# Altium integrated library WE_WR-PHD_Pin Header & Jumper_1.27mm_rev15a.IntLib: 19 symbols
Pins are listed as number, name and electrical type; pins without a type are passive.

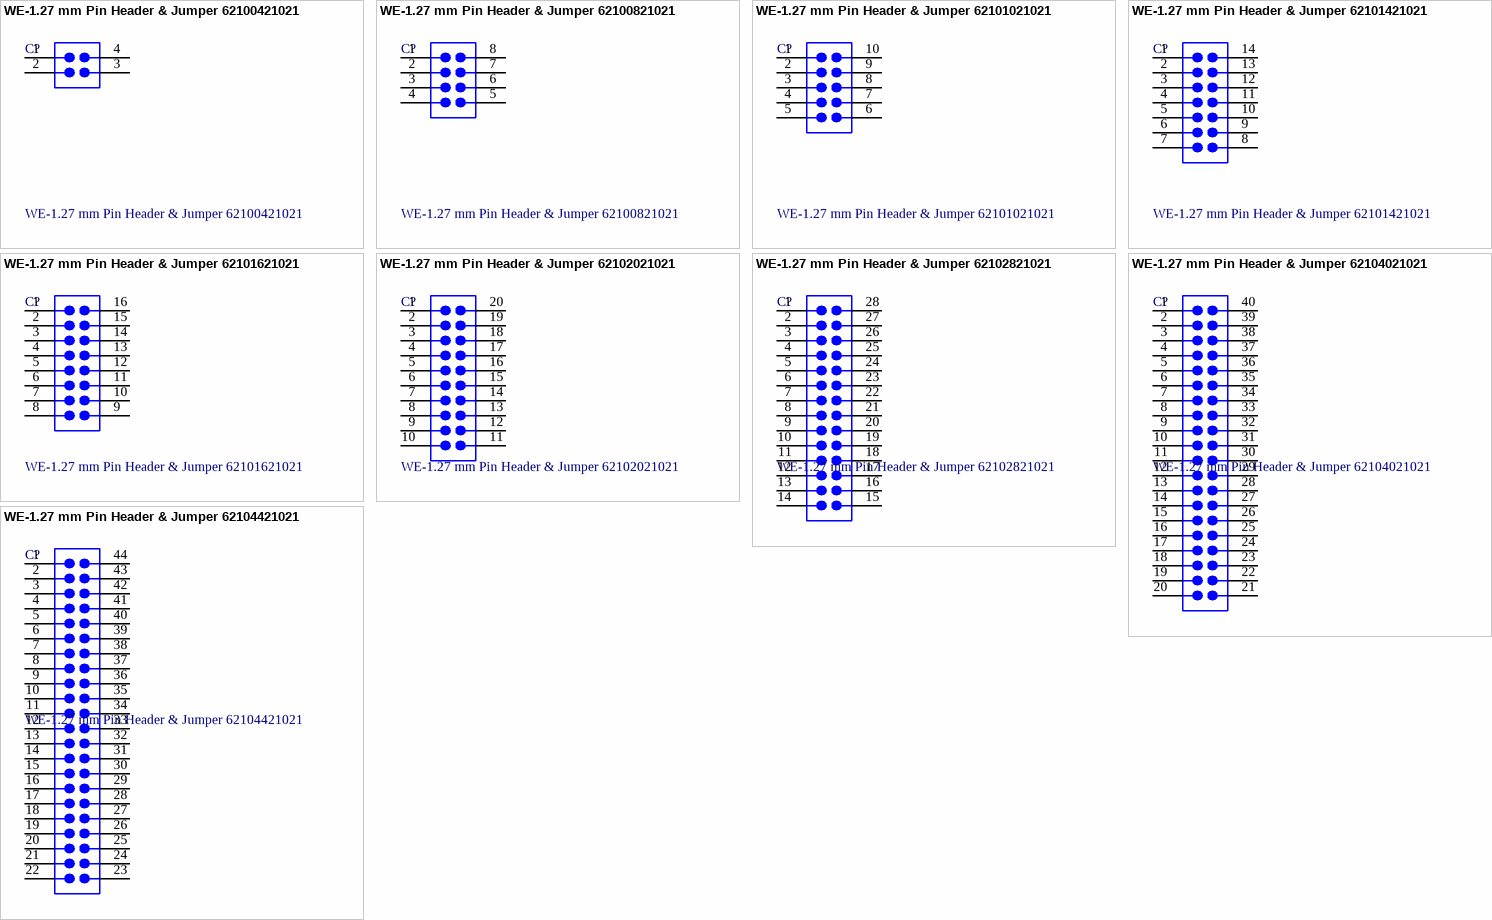
[diagram p0: symbols WE-1.27 mm Pin Header & Jumper 62100421021 to WE-1.27 mm Pin Header & Jumper 62104421021]

## WE-1.27 mm Pin Header & Jumper 62100421021
designator C?
WR-PHD 1.27 mm Dual SMT Pin Header; Manufacturer: Würth Elektronik eiSos GmbH; ComponentLink1 Description: Manufacturer; ComponentLink2 Description: Datasheet; NoPins: 04; Created Date: 3 April 2013; partNo: 62100421021; ComponentLink1URL: http://www.we-online.com; ComponentLink2URL: http://katalog.we-online.de/em/datasheet/6210xx21021.pdf; Created by: Karrer Zheng
footprint 62100421021 (4 pins, dual row, straight, gold plating)
pins: 1, 2, 3, 4

## WE-1.27 mm Pin Header & Jumper 62100821021
designator C?
WR-PHD 1.27 mm Dual SMT Pin Header; Manufacturer: Würth Elektronik eiSos GmbH; ComponentLink1 Description: Manufacturer; ComponentLink2 Description: Datasheet; NoPins: 08; Created Date: 3 April 2013; partNo: 62100821021; ComponentLink1URL: http://www.we-online.com; ComponentLink2URL: http://katalog.we-online.de/em/datasheet/6210xx21021.pdf; Created by: Karrer Zheng
footprint 62100821021 (8 pins, dual row, straight, gold plating)
pins: 1, 2, 3, 4, 5, 6, 7, 8

## WE-1.27 mm Pin Header & Jumper 62101021021
designator C?
WR-PHD 1.27 mm Dual SMT Pin Header; Manufacturer: Würth Elektronik eiSos GmbH; ComponentLink1 Description: Manufacturer; ComponentLink2 Description: Datasheet; NoPins: 10; Created Date: 3 April 2013; partNo: 62101021021; ComponentLink1URL: http://www.we-online.com; ComponentLink2URL: http://katalog.we-online.de/em/datasheet/6210xx21021.pdf; Created by: Karrer Zheng
footprint 62101021021 (10 pins, dual row, straight, gold plating)
pins: 1, 2, 3, 4, 5, 6, 7, 8, 9, 10

## WE-1.27 mm Pin Header & Jumper 62101421021
designator C?
WR-PHD 1.27 mm Dual SMT Pin Header; Manufacturer: Würth Elektronik eiSos GmbH; ComponentLink1 Description: Manufacturer; ComponentLink2 Description: Datasheet; NoPins: 14; Created Date: 3 April 2013; partNo: 62101421021; ComponentLink1URL: http://www.we-online.com; ComponentLink2URL: http://katalog.we-online.de/em/datasheet/6210xx21021.pdf; Created by: Karrer Zheng
footprint 62101421021 (14 pins, dual row, straight, gold plating)
pins: 1, 2, 3, 4, 5, 6, 7, 8, 9, 10, 11, 12, 13, 14

## WE-1.27 mm Pin Header & Jumper 62101621021
designator C?
WR-PHD 1.27 mm Dual SMT Pin Header; Manufacturer: Würth Elektronik eiSos GmbH; ComponentLink1 Description: Manufacturer; ComponentLink2 Description: Datasheet; NoPins: 16; Created Date: 3 April 2013; partNo: 62101621021; ComponentLink1URL: http://www.we-online.com; ComponentLink2URL: http://katalog.we-online.de/em/datasheet/6210xx21021.pdf; Created by: Karrer Zheng
footprint 62101621021 (16 pins, dual row, straight, gold plating)
pins: 1, 2, 3, 4, 5, 6, 7, 8, 9, 10, 11, 12, 13, 14, 15, 16

## WE-1.27 mm Pin Header & Jumper 62102021021
designator C?
WR-PHD 1.27 mm Dual SMT Pin Header; Manufacturer: Würth Elektronik eiSos GmbH; ComponentLink1 Description: Manufacturer; ComponentLink2 Description: Datasheet; NoPins: 20; Created Date: 3 April 2013; partNo: 62102021021; ComponentLink1URL: http://www.we-online.com; ComponentLink2URL: http://katalog.we-online.de/em/datasheet/6210xx21021.pdf; Created by: Karrer Zheng
footprint 62102021021 (20 pins, dual row, straight, gold plating)
pins: 1, 2, 3, 4, 5, 6, 7, 8, 9, 10, 11, 12, 13, 14, 15, 16, 17, 18, 19, 20

## WE-1.27 mm Pin Header & Jumper 62102821021
designator C?
WR-PHD 1.27 mm Dual SMT Pin Header; Manufacturer: Würth Elektronik eiSos GmbH; ComponentLink1 Description: Manufacturer; ComponentLink2 Description: Datasheet; NoPins: 28; Created Date: 3 April 2013; partNo: 62102821021; ComponentLink1URL: http://www.we-online.com; ComponentLink2URL: http://katalog.we-online.de/em/datasheet/6210xx21021.pdf; Created by: Karrer Zheng
footprint 62102821021 (28 pins, dual row, straight, gold plating)
pins: 1, 2, 3, 4, 5, 6, 7, 8, 9, 10, 11, 12, 13, 14, 15, 16, 17, 18, 19, 20, 21, 22, 23, 24, 25, 26, 27, 28

## WE-1.27 mm Pin Header & Jumper 62104021021
designator C?
WR-PHD 1.27 mm Dual SMT Pin Header; Manufacturer: Würth Elektronik eiSos GmbH; ComponentLink1 Description: Manufacturer; ComponentLink2 Description: Datasheet; NoPins: 40; Created Date: 3 April 2013; partNo: 62104021021; ComponentLink1URL: http://www.we-online.com; ComponentLink2URL: http://katalog.we-online.de/em/datasheet/6210xx21021.pdf; Created by: Karrer Zheng
footprint 62104021021 (40 pins, dual row, straight, gold plating)
pins: 1, 2, 3, 4, 5, 6, 7, 8, 9, 10, 11, 12, 13, 14, 15, 16, 17, 18, 19, 20, 21, 22, 23, 24, 25, 26, 27, 28, 29, 30, 31, 32, 33, 34, 35, 36, 37, 38, 39, 40

## WE-1.27 mm Pin Header & Jumper 62104421021
designator C?
WR-PHD 1.27 mm Dual SMT Pin Header; Manufacturer: Würth Elektronik eiSos GmbH; ComponentLink1 Description: Manufacturer; ComponentLink2 Description: Datasheet; NoPins: 44; Created Date: 3 April 2013; partNo: 62104421021; ComponentLink1URL: http://www.we-online.com; ComponentLink2URL: http://katalog.we-online.de/em/datasheet/6210xx21021.pdf; Created by: Karrer Zheng
footprint 62104421021 (44 pins, dual row, straight, gold plating)
pins: 1, 2, 3, 4, 5, 6, 7, 8, 9, 10, 11, 12, 13, 14, 15, 16, 17, 18, 19, 20, 21, 22, 23, 24, 25, 26, 27, 28, 29, 30, 31, 32, 33, 34, 35, 36, 37, 38, 39, 40, 41, 42, 43, 44


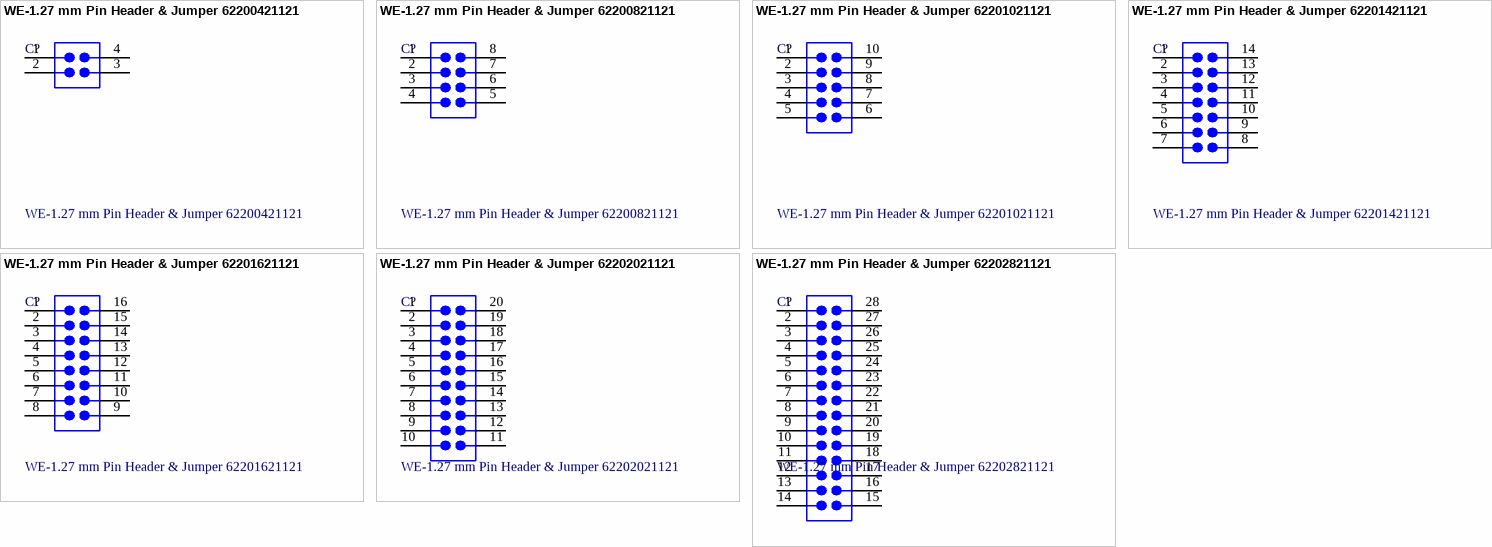
[diagram p1: symbols WE-1.27 mm Pin Header & Jumper 62200421121 to WE-1.27 mm Pin Header & Jumper 62202821121]

## WE-1.27 mm Pin Header & Jumper 62200421121
designator C?
WR-PHD 1.27 mm Dual Pin Header; Manufacturer: Würth Elektronik eiSos GmbH; ComponentLink1 Description: Manufacturer; ComponentLink2 Description: Datasheet; NoPins: 04; Created Date: 3 April 2013; partNo: 62200421121; ComponentLink1URL: http://www.we-online.com; ComponentLink2URL: http://katalog.we-online.de/em/datasheet/6220xx21121.pdf; Created by: Karrer Zheng
footprint 62200421121 (4 pins, dual row, straight, gold plating)
pins: 1, 2, 3, 4

## WE-1.27 mm Pin Header & Jumper 62200821121
designator C?
WR-PHD 1.27 mm Dual Pin Header; Manufacturer: Würth Elektronik eiSos GmbH; ComponentLink1 Description: Manufacturer; ComponentLink2 Description: Datasheet; NoPins: 08; Created Date: 3 April 2013; partNo: 62200821121; ComponentLink1URL: http://www.we-online.com; ComponentLink2URL: http://katalog.we-online.de/em/datasheet/6220xx21121.pdf; Created by: Karrer Zheng
footprint 62200821121 (8 pins, dual row, straight, gold plating)
pins: 1, 2, 3, 4, 5, 6, 7, 8

## WE-1.27 mm Pin Header & Jumper 62201021121
designator C?
WR-PHD 1.27 mm Dual Pin Header; Manufacturer: Würth Elektronik eiSos GmbH; ComponentLink1 Description: Manufacturer; ComponentLink2 Description: Datasheet; NoPins: 10; Created Date: 3 April 2013; partNo: 62201021121; ComponentLink1URL: http://www.we-online.com; ComponentLink2URL: http://katalog.we-online.de/em/datasheet/6220xx21121.pdf; Created by: Karrer Zheng
footprint 62201021121 (10 pins, dual row, straight, gold plating)
pins: 1, 2, 3, 4, 5, 6, 7, 8, 9, 10

## WE-1.27 mm Pin Header & Jumper 62201421121
designator C?
WR-PHD 1.27 mm Dual Pin Header; Manufacturer: Würth Elektronik eiSos GmbH; ComponentLink1 Description: Manufacturer; ComponentLink2 Description: Datasheet; NoPins: 10; Created Date: 3 April 2013; partNo: 62201421121; ComponentLink1URL: http://www.we-online.com; ComponentLink2URL: http://katalog.we-online.de/em/datasheet/6220xx21121.pdf; Created by: Karrer Zheng
footprint 62201421121 (14 pins, dual row, straight, gold plating)
pins: 1, 2, 3, 4, 5, 6, 7, 8, 9, 10, 11, 12, 13, 14

## WE-1.27 mm Pin Header & Jumper 62201621121
designator C?
WR-PHD 1.27 mm Dual Pin Header; Manufacturer: Würth Elektronik eiSos GmbH; ComponentLink1 Description: Manufacturer; ComponentLink2 Description: Datasheet; NoPins: 16; Created Date: 3 April 2013; partNo: 62201621121; ComponentLink1URL: http://www.we-online.com; ComponentLink2URL: http://katalog.we-online.de/em/datasheet/6220xx21121.pdf; Created by: Karrer Zheng
footprint 62201621121 (16 pins, dual row, straight, gold plating)
pins: 1, 2, 3, 4, 5, 6, 7, 8, 9, 10, 11, 12, 13, 14, 15, 16

## WE-1.27 mm Pin Header & Jumper 62202021121
designator C?
WR-PHD 1.27 mm Dual Pin Header; Manufacturer: Würth Elektronik eiSos GmbH; ComponentLink1 Description: Manufacturer; ComponentLink2 Description: Datasheet; NoPins: 20; Created Date: 3 April 2013; partNo: 62202021121; ComponentLink1URL: http://www.we-online.com; ComponentLink2URL: http://katalog.we-online.de/em/datasheet/6220xx21121.pdf; Created by: Karrer Zheng
footprint 62202021121 (20 pins, dual row, straight, gold plating)
pins: 1, 2, 3, 4, 5, 6, 7, 8, 9, 10, 11, 12, 13, 14, 15, 16, 17, 18, 19, 20

## WE-1.27 mm Pin Header & Jumper 62202821121
designator C?
WR-PHD 1.27 mm Dual Pin Header; Manufacturer: Würth Elektronik eiSos GmbH; ComponentLink1 Description: Manufacturer; ComponentLink2 Description: Datasheet; NoPins: 28; Created Date: 3 April 2013; partNo: 62202821121; ComponentLink1URL: http://www.we-online.com; ComponentLink2URL: http://katalog.we-online.de/em/datasheet/6220xx21121.pdf; Created by: Karrer Zheng
footprint 62202821121 (28 pins, dual row, straight, gold plating)
pins: 1, 2, 3, 4, 5, 6, 7, 8, 9, 10, 11, 12, 13, 14, 15, 16, 17, 18, 19, 20, 21, 22, 23, 24, 25, 26, 27, 28


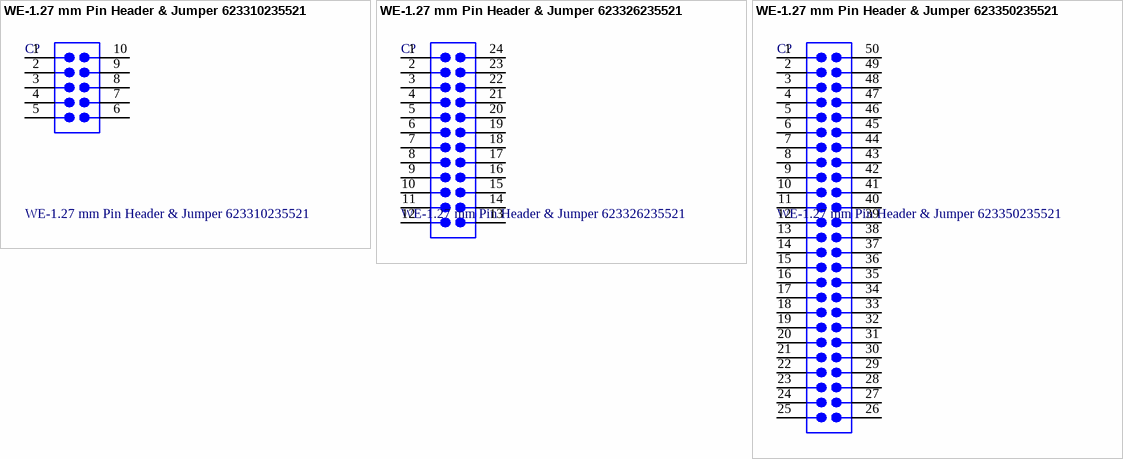
[diagram p2: symbols WE-1.27 mm Pin Header & Jumper 623310235521 to WE-1.27 mm Pin Header & Jumper 623350235521]

## WE-1.27 mm Pin Header & Jumper 623310235521
designator C?
WR-PHD 1.27 mm Dual SMT Pin Header H=1.80mm; Manufacturer: Würth Elektronik eiSos GmbH; ComponentLink1 Description: Manufacturer; ComponentLink2 Description: Datasheet; NoPins: 10; Created Date: 3 April 2013; partNo: 623310235521; ComponentLink1URL: http://www.we-online.com; ComponentLink2URL: http://katalog.we-online.de/em/datasheet/6233xx235521.pdf; Created by: Karrer Zheng
footprint 623310235521 (10 pins, dual row, straight, gold plating)
pins: 1, 2, 3, 4, 5, 6, 7, 8, 9, 10

## WE-1.27 mm Pin Header & Jumper 623326235521
designator C?
WR-PHD 1.27 mm Dual SMT Pin Header H=1.80mm; Manufacturer: Würth Elektronik eiSos GmbH; ComponentLink1 Description: Manufacturer; ComponentLink2 Description: Datasheet; NoPins: 26; Created Date: 3 April 2013; partNo: 623326235521; ComponentLink1URL: http://www.we-online.com; ComponentLink2URL: http://katalog.we-online.de/em/datasheet/6233xx235521.pdf; Created by: Karrer Zheng
footprint 623326235521 (26 pins, dual row, straight, gold plating)
pins: 1, 2, 3, 4, 5, 6, 7, 8, 9, 10, 11, 12, 13, 14, 15, 16, 17, 18, 19, 20, 21, 22, 23, 24

## WE-1.27 mm Pin Header & Jumper 623350235521
designator C?
WR-PHD 1.27 mm Dual SMT Pin Header H=1.80mm; Manufacturer: Würth Elektronik eiSos GmbH; ComponentLink1 Description: Manufacturer; ComponentLink2 Description: Datasheet; NoPins: 50; Created Date: 3 April 2013; partNo: 623350235521; ComponentLink1URL: http://www.we-online.com; ComponentLink2URL: http://katalog.we-online.de/em/datasheet/6233xx235521.pdf; Created by: Karrer Zheng
footprint 623350235521 (50 pins, dual row, straight, gold plating)
pins: 1, 2, 3, 4, 5, 6, 7, 8, 9, 10, 11, 12, 13, 14, 15, 16, 17, 18, 19, 20, 21, 22, 23, 24, 25, 26, 27, 28, 29, 30, 31, 32, 33, 34, 35, 36, 37, 38, 39, 40, 41, 42, 43, 44, 45, 46, 47, 48, 49, 50